# EAGLE library part MAX7315 (library maxim)
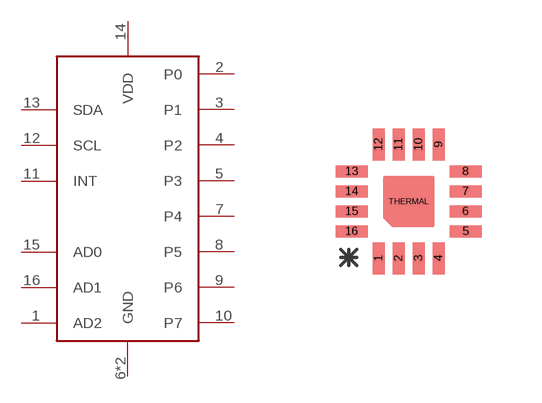
[diagram p0: symbol with the pads of 16TQFN; footprint 16TQFN]

Designator prefix -

## MAX7315  [16TQFN]
1  AD2
2  P0
3  P1
4  P2
5  P3
6  GND
7  P4
8  P5
9  P6
10  P7
11  INT
12  SCL
13  SDA
14  VDD
15  AD0
16  AD1
THERMAL  GND

## Footprint 16TQFN (pad centres in mm)
smd 0.3 x 0.8: 1 -0.75,-1.425; 2 -0.25,-1.425; 3 0.25,-1.425; 4 0.75,-1.425; 9 0.75,1.425; 10 0.25,1.425; 11 -0.25,1.425; 12 -0.75,1.425
smd 0.8 x 0.3: 5 1.425,-0.75; 6 1.425,-0.25; 7 1.425,0.25; 8 1.425,0.75; 13 -1.425,0.75; 14 -1.425,0.25; 15 -1.425,-0.25; 16 -1.425,-0.75
smd 0.5 x 0.5: THERMAL 0,0